# Altium schematic symbol library iRangeX RM601.SchLib: 1 symbol
Pins are listed as number, name and electrical type; pins without a type are passive.

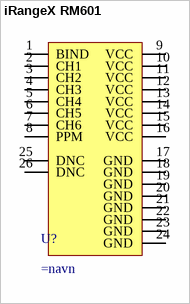
[diagram p0: symbol iRangeX RM601]

## iRangeX RM601
designator U?
footprint iRangeX RM601
pins: 1 BIND, 2 CH1, 3 CH2, 4 CH3, 5 CH4, 6 CH5, 7 CH6, 8 PPM, 9 VCC, 10 VCC, 11 VCC, 12 VCC, 13 VCC, 14 VCC, 15 VCC, 16 VCC, 17 GND, 18 GND, 19 GND, 20 GND, 21 GND, 22 GND, 23 GND, 24 GND, 25 DNC, 26 DNC